# Altium schematic symbol library Schlib_Controller.SchLib: 6 symbols
Pins are listed as number, name and electrical type; pins without a type are passive.

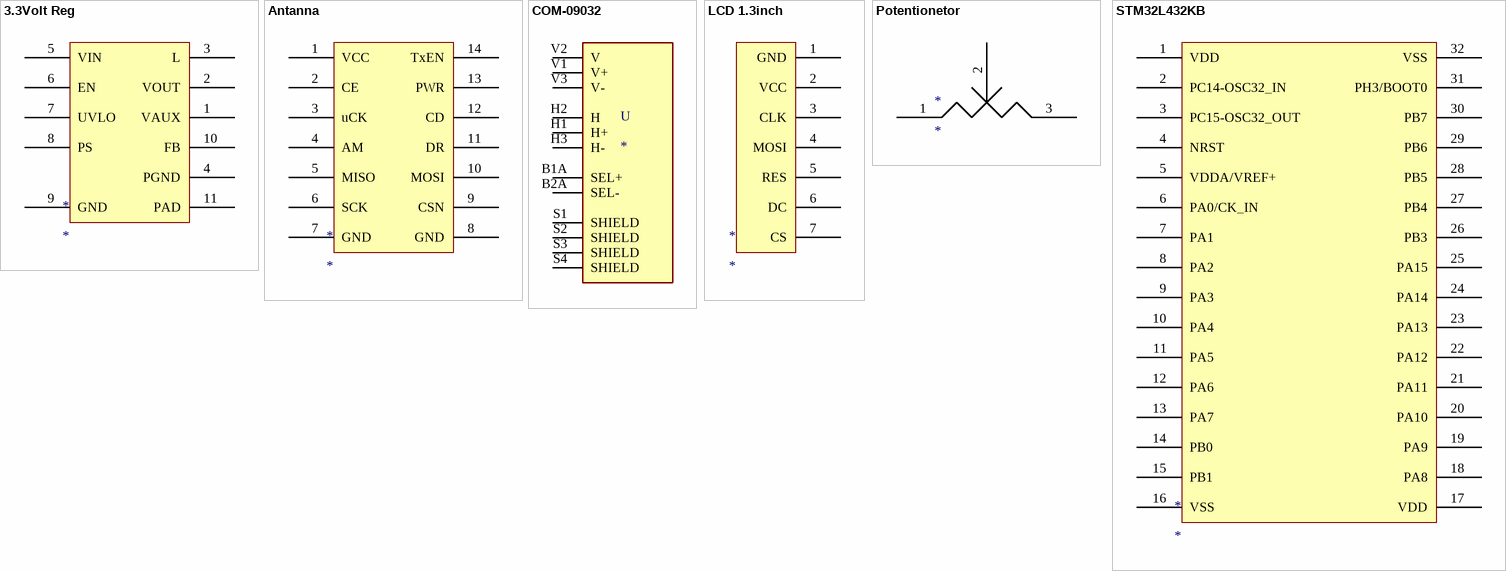
[diagram p0: symbols 3.3Volt Reg to STM32L432KB]

## 3.3Volt Reg
designator *
footprint VREG_V62/16624-01YE
pins: 1 VAUX, 2 VOUT, 3 L, 4 PGND, 5 VIN, 6 EN, 7 UVLO, 8 PS, 9 GND, 10 FB, 11 PAD

## Antanna
designator *
footprint Antanna
pins: 1 VCC, 2 CE, 3 uCK, 4 AM, 5 MISO, 6 SCK, 7 GND, 8 GND, 9 CSN, 10 MOSI, 11 DR, 12 CD, 13 PWR, 14 TxEN

## COM-09032
designator U
Joystick, 2 - Axis Analog _Resistive_ Output; MF: SparkFun Electronics; MP: COM-09032; SnapEDA_Link: https://www.snapeda.com/parts/COM-09032/SparkFun%20Electronics/view-part/888157/?ref=snap; Availability: Unavailable; Value: *; Price: None; Package: SparkFun Electronics
footprint XDCR_COM-09032
pins: B1A SEL+, B2A SEL-, H1 H+, H2 H, H3 H-, S1 SHIELD, S2 SHIELD, S3 SHIELD, S4 SHIELD, V1 V+, V2 V, V3 V-

## LCD 1.3inch
designator *
footprint LCD (1.3 LCD Display)
pins: 1 GND, 2 VCC, 3 CLK, 4 MOSI, 5 RES, 6 DC, 7 CS

## Potentionetor
designator *
footprint potentiometer
pins: 1, 2, 3

## STM32L432KB
designator *
footprint UFQFPN32 (32-pin hidden)
pins: 1 VDD, 2 PC14-OSC32_IN, 3 PC15-OSC32_OUT, 4 NRST, 5 VDDA/VREF+, 6 PA0/CK_IN, 7 PA1, 8 PA2, 9 PA3, 10 PA4, 11 PA5, 12 PA6, 13 PA7, 14 PB0, 15 PB1, 16 VSS, 17 VDD, 18 PA8, 19 PA9, 20 PA10, 21 PA11, 22 PA12, 23 PA13, 24 PA14, 25 PA15, 26 PB3, 27 PB4, 28 PB5, 29 PB6, 30 PB7, 31 PH3/BOOT0, 32 VSS